# EAGLE library part TLC555-D (library ExtraParts)
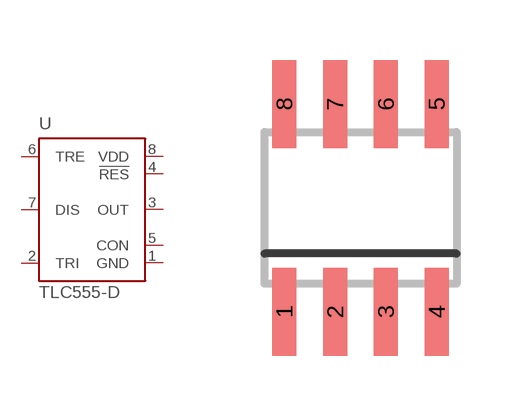
[diagram p6: symbol with the pads of SOIC8; footprint SOIC8]

Designator prefix -

## TLC555-D  [SOIC8]
1  GND  pwr
2  TRI  in
3  OUT  out
4  !RES  in
5  CON  in
6  TRE  in
7  DIS  out
8  VDD  pwr

## Footprint SOIC8 (pad centres in mm)
Small Outline IC
smd 0.6 x 2.2: 1 -1.905,-2.6; 2 -0.635,-2.6; 3 0.635,-2.6; 4 1.905,-2.6; 5 1.905,2.6; 6 0.635,2.6; 7 -0.635,2.6; 8 -1.905,2.6